# EAGLE library part ARD_PRO_MINI (library Arduino-Pro-Mini)
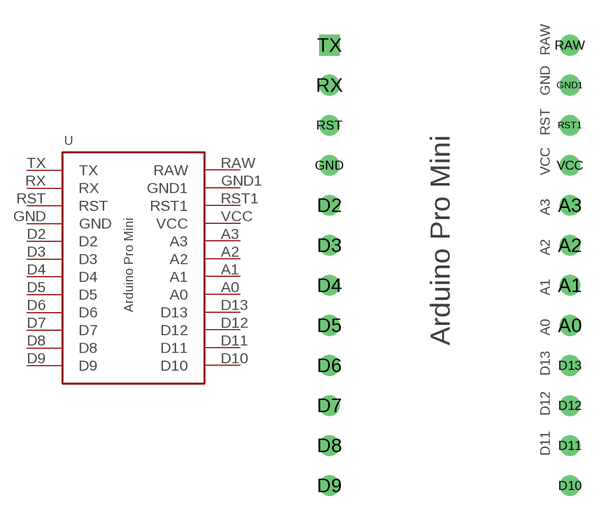
[diagram p0: symbol with the pads of ARD_PRO_MINI; footprint ARD_PRO_MINI]

Designator prefix -

## ARD_PRO_MINI  [ARD_PRO_MINI]
A0  A0
A1  A1
A2  A2
A3  A3
D2  D2
D3  D3
D4  D4
D5  D5
D6  D6
D7  D7
D8  D8
D9  D9
D10  D10
D11  D11
D12  D12
D13  D13
GND  GND
GND1  GND1
RAW  RAW
RST  RST
RST1  RST1
RX  RX
TX  TX
VCC  VCC

## Footprint ARD_PRO_MINI (pad centres in mm)
drill 0.8: A0 7.62,-5.08; A1 7.62,-2.54; A2 7.62,0; A3 7.62,2.54; D2 -7.62,2.54; D3 -7.62,0; D4 -7.62,-2.54; D5 -7.62,-5.08; D6 -7.62,-7.62; D7 -7.62,-10.16; D8 -7.62,-12.7; D9 -7.62,-15.24; D10 7.62,-15.24; D11 7.62,-12.7; D12 7.62,-10.16; D13 7.62,-7.62; GND -7.62,5.08; GND1 7.62,10.16; RAW 7.62,12.7; RST -7.62,7.62; RST1 7.62,7.62; RX -7.62,10.16; VCC 7.62,5.08
drill 0.8 square: TX -7.62,12.7